# Altium footprint library PcbLib2.PcbLib: 5 footprints
Each footprint in its own frame and in the unit in brackets; x right, y up, seen from the top. Pads: shape width x height; smd on the part's side, far side on the other; paste and mask are expansions set on the pad; w line width, h text height; cw(c..) or ccw(c..) is an arc to the next point about the centre after c.
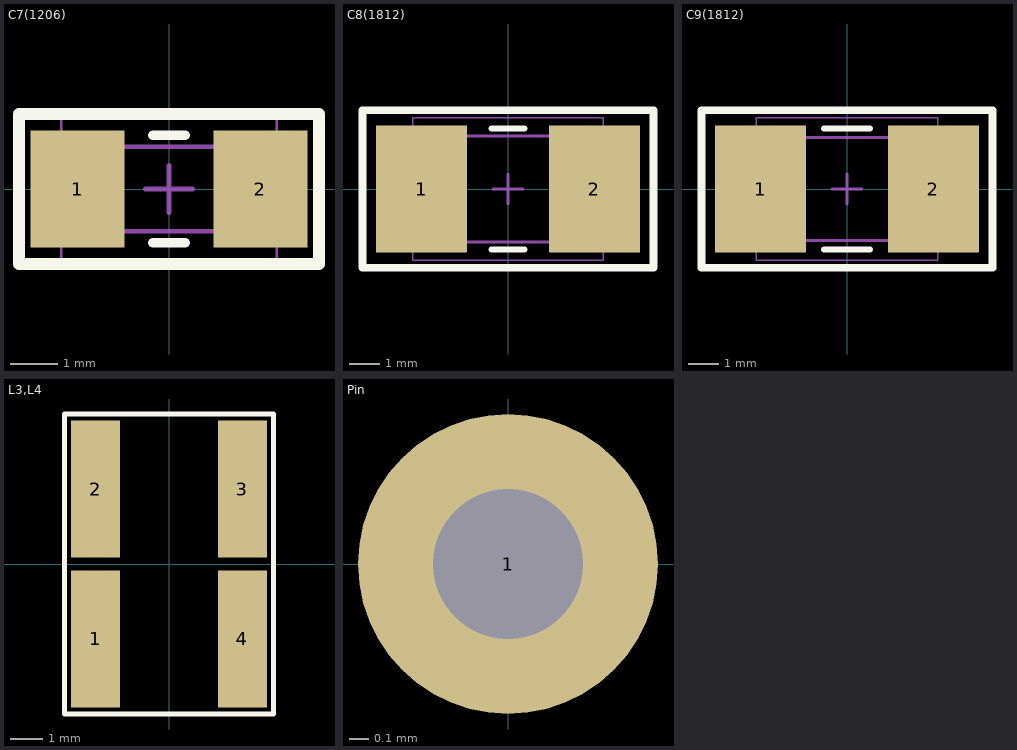
[diagram p0: the footprints below, top view; thin cyan lines are the x and y axes]

## C7(1206) [mm] "Chip Capacitor, 2-Leads, Body 3,20x1,60mm, IPC Medium Density"
height 1.3
pads (2):
  rect 2x2.5 smd: 1(-1.95,0) 2(1.95,0)
Top Overlay:
  lines w0.2: -0.35,-1.15 0.35,-1.15 ; -0.35,1.15 0.35,1.15
  lines w0.254: -3.2,-1.6 -3.2,1.6 3.2,1.6 3.2,-1.6 -3.2,-1.6
Mechanical 13:
  lines w0.1: -1.7,-0.9 1.7,-0.9 1.7,0.9 -1.7,0.9 -1.7,-0.9
Mechanical 15:
  lines w0.05: -2.3,-1.5 2.3,-1.5 2.3,1.5 -2.3,1.5 -2.3,-1.5
  lines w0.1: -0.5,0 0.5,0 ; 0,-0.5 0,0.5
3D body: height 1.3, standoff 0, extent 1.2,-0.9 1.7,0.9
3D body: height 1.3, standoff 0, extent -1.7,-0.9 -1.2,0.9
3D body: height 1.3, standoff 0, extent -1.2,-0.9 1.2,0.9

## C8(1812) [mm] "Chip Capacitor, 2-Leads, Body 4,60x3,20mm, IPC Medium Density"
height 2.8
pads (2):
  rect 3x4.2 smd: 1(-2.85,0) 2(2.85,0)
Top Overlay:
  lines w0.2: -0.55,-2 0.55,-2 ; -0.55,2 0.55,2
  lines w0.254: -4.8,-2.6 -4.8,2.6 4.8,2.6 4.8,-2.6 -4.8,-2.6
Mechanical 13:
  lines w0.1: -2.55,-1.75 -2.55,1.75 2.55,1.75 2.55,-1.75 -2.55,-1.75
Mechanical 15:
  lines w0.05: -3.15,-2.35 -3.15,2.35 3.15,2.35 3.15,-2.35 -3.15,-2.35
  lines w0.1: -0.5,0 0.5,0 ; 0,-0.5 0,0.5
3D body: height 2.8, standoff 0, extent -1.8,-1.75 1.8,1.75
3D body: height 2.8, standoff 0, extent -2.55,-1.75 -1.8,1.75
3D body: height 2.8, standoff 0, extent 1.8,-1.75 2.55,1.75

## C9(1812) [mm] "Chip Capacitor, 2-Leads, Body 4,50x3,20mm, IPC Medium Density"
height 2.8
pads (2):
  rect 3x4.2 smd: 1(-2.85,0) 2(2.85,0)
Top Overlay:
  lines w0.2: -0.75,-2 0.75,-2 ; -0.75,2 0.75,2
  lines w0.254: -4.8,-2.6 4.8,-2.6 4.8,2.6 -4.8,2.6 -4.8,-2.6
Mechanical 13:
  lines w0.1: -2.4,-1.7 2.4,-1.7 2.4,1.7 -2.4,1.7 -2.4,-1.7
Mechanical 15:
  lines w0.05: -3,-2.35 3,-2.35 3,2.35 -3,2.35 -3,-2.35
  lines w0.1: -0.5,0 0.5,0 ; 0,-0.5 0,0.5
3D body: height 2.8, standoff 0, extent 1.76,-1.7 2.4,1.7
3D body: height 2.8, standoff 0, extent -2.4,-1.7 -1.76,1.7
3D body: height 2.8, standoff 0, extent -1.76,-1.7 1.76,1.7

## L3,L4 [mm]
pads (4):
  rect 1.5x4.2 smd: 1(-2.25,-2.3) 2(-2.25,2.3) 3(2.25,2.3) 4(2.25,-2.3)
Top Overlay:
  lines w0.154: -3.2,-4.6 -3.2,4.6 3.2,4.6 3.2,-4.6 -3.2,-4.6

## Pin [mil]
pads (1):
  round 60 hole 30: 1(0,0)